# Altium footprint library POWER_COMPONENTS_FOOTPRINTS.PcbLib: 14 footprints
Each footprint in its own frame and in the unit in brackets; x right, y up, seen from the top. Pads: shape width x height; smd on the part's side, far side on the other; paste and mask are expansions set on the pad; w line width, h text height; cw(c..) or ccw(c..) is an arc to the next point about the centre after c.
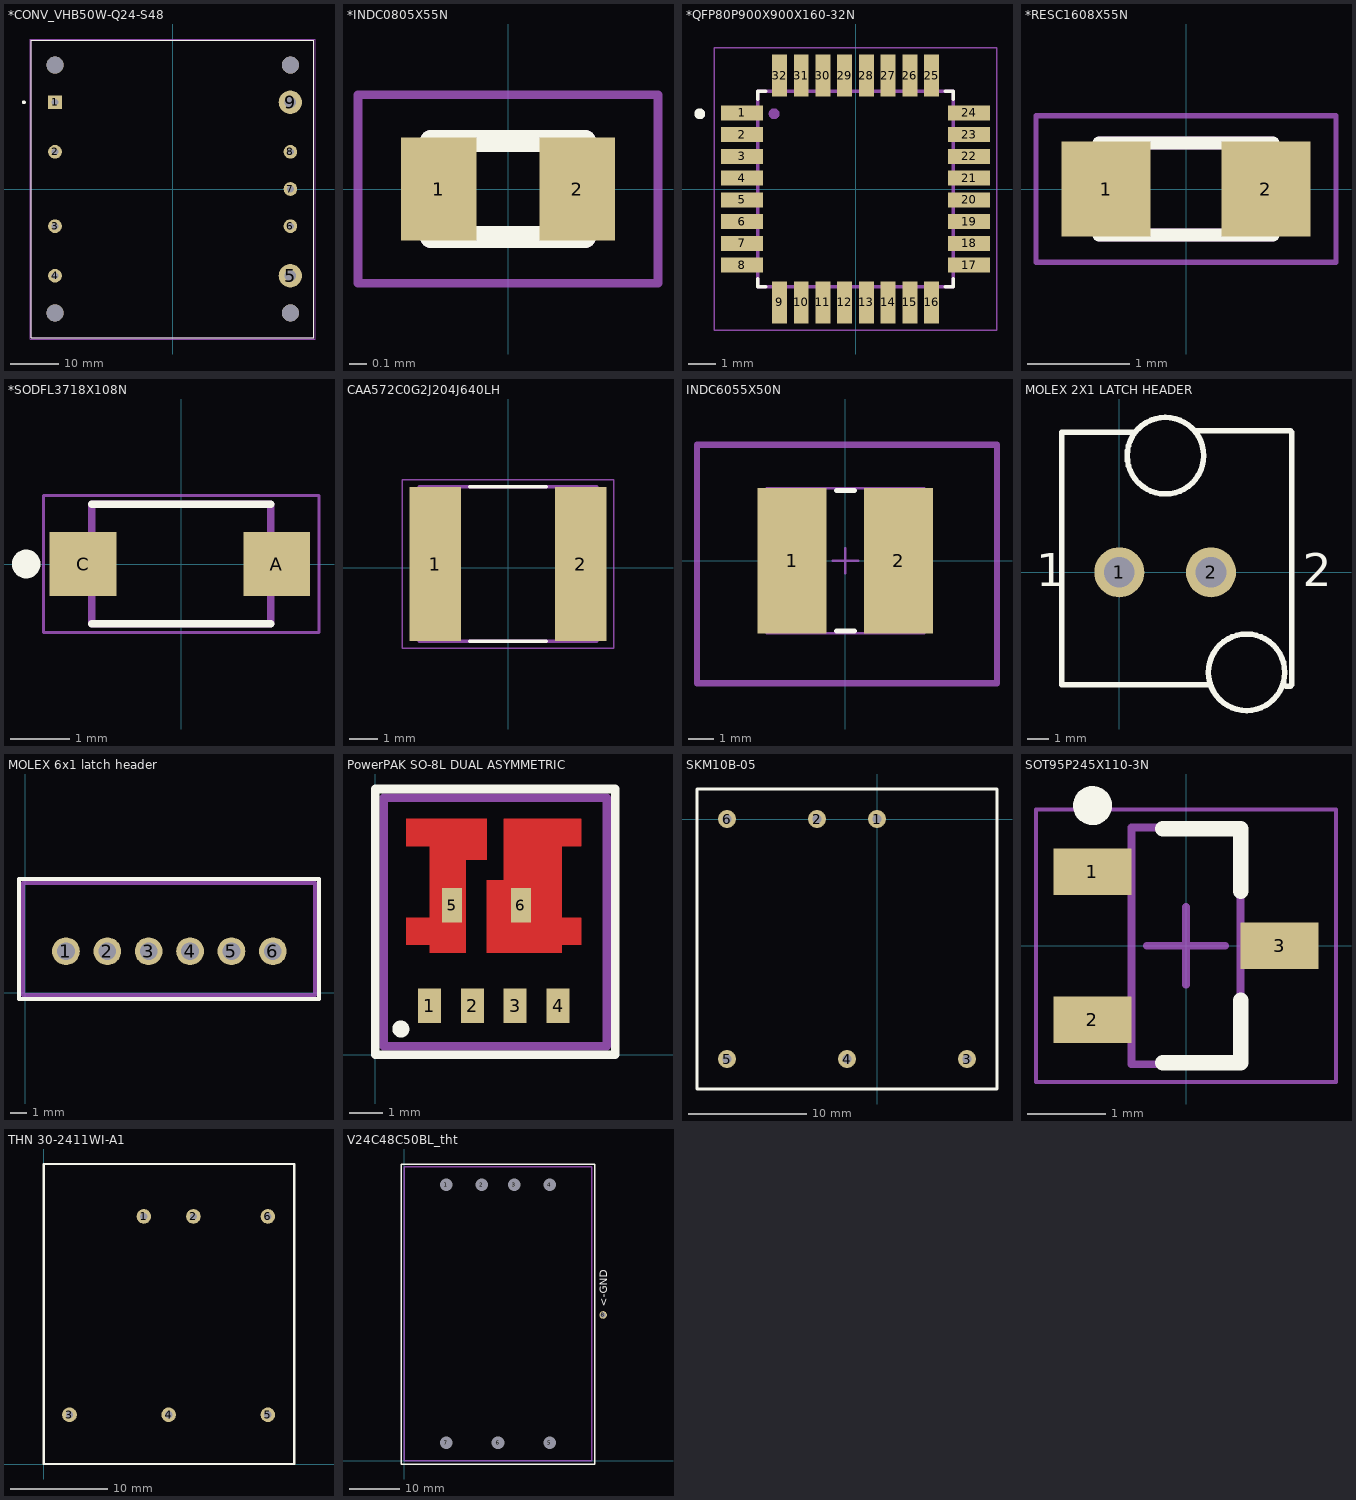
[diagram p0: the footprints below, top view; thin cyan lines are the x and y axes]

## *CONV_VHB50W-Q24-S48 [mm]
pads (13):
  rect 2.8x2.8 hole 1.4: 1(-24.125,17.78)
  round 2.8 hole 1.4: 2(-24.125,7.62) 3(-24.125,-7.62) 4(-24.125,-17.78) 6(24.125,-7.62) 7(24.125,0) 8(24.125,7.62)
  round 4.8 hole 2.4: 5(24.125,-17.78) 9(24.125,17.78)
  round 3.5 hole 3.5 unplated: None(-24.125,-25.4) None(-24.125,25.4) None(24.125,-25.4) None(24.125,25.4)
Top Overlay:
  circle w0.4: c-30.515,17.78 r0.2
  lines w0.127: -28.95,-30.5 28.95,-30.5 28.95,30.5 -28.95,30.5 -28.95,-30.5
Dimensions:
  circle w0.4: c-24.125,17.78 r0.2
  circle w0.4: c-24.125,17.78 r0.2
  lines w0.127: -28.95,-30.5 28.95,-30.5 ; -28.95,-30.5 -28.95,30.5 ; -28.95,-30.5 28.95,-30.5 ; -28.95,-30.5 -28.95,30.5 ; -28.95,30.5 28.95,30.5 ; -28.95,30.5 28.95,30.5 ; 28.95,-30.5 28.95,30.5 ; 28.95,-30.5 28.95,30.5
Mechanical 15:
  lines w0.05: -29.2,-30.75 -29.2,30.75 29.2,30.75 29.2,-30.75 -29.2,-30.75
3D body "CUI_VHB50W-Q24-S48.step": height 12.7, standoff -4.6, extent -28.95,-30.5 28.95,30.5

## *INDC0805X55N [mm]
pads (2):
  rect 0.44x0.6 smd: 1(-0.405,0) 2(0.405,0)
Top Overlay:
  lines w0.127: -0.45,-0.28 0.45,-0.28 ; -0.45,0.28 0.45,0.28
Bottom 3D Body:
  lines w0.127: -0.45,-0.28 0.45,-0.28 ; -0.45,-0.28 -0.45,0.28 ; -0.45,-0.28 -0.45,0.28 ; -0.45,0.28 0.45,0.28 ; 0.45,-0.28 0.45,0.28 ; 0.45,-0.28 0.45,0.28
Mechanical 15:
  lines w0.05: -0.875,-0.55 -0.875,0.55 0.875,0.55 0.875,-0.55 -0.875,-0.55
3D body: height 1.1, standoff 0, extent -0.45,-0.28 0.45,0.28

## *QFP80P900X900X160-32N [mm]
pads (32):
  rect 1.56x0.55 smd: 1(-4.18,2.8) 2(-4.18,2) 3(-4.18,1.2) 4(-4.18,0.4) 5(-4.18,-0.4) 6(-4.18,-1.2) 7(-4.18,-2) 8(-4.18,-2.8) 17(4.18,-2.8) 18(4.18,-2) 19(4.18,-1.2) 20(4.18,-0.4) 21(4.18,0.4) 22(4.18,1.2) 23(4.18,2) 24(4.18,2.8)
  rect 0.55x1.56 smd: 9(-2.8,-4.18) 10(-2,-4.18) 11(-1.2,-4.18) 12(-0.4,-4.18) 13(0.4,-4.18) 14(1.2,-4.18) 15(2,-4.18) 16(2.8,-4.18) 25(2.8,4.18) 26(2,4.18) 27(1.2,4.18) 28(0.4,4.18) 29(-0.4,4.18) 30(-1.2,4.18) 31(-2,4.18) 32(-2.8,4.18)
Top Overlay:
  circle w0.2: c-5.74,2.77 r0.1
  lines w0.127: -3.6,-3.3 -3.6,-3.6 -3.3,-3.6 ; -3.6,3.3 -3.6,3.6 -3.3,3.6 ; 3.3,-3.6 3.6,-3.6 3.6,-3.3 ; 3.3,3.6 3.6,3.6 3.6,3.3
Bottom 3D Body:
  circle w0.2: c-3,2.77 r0.1
  circle w0.2: c-3,2.77 r0.1
  lines w0.127: -3.6,-3.6 3.6,-3.6 ; -3.6,-3.6 -3.6,3.6 ; -3.6,-3.6 3.6,-3.6 ; -3.6,-3.6 -3.6,3.6 ; -3.6,3.6 3.6,3.6 ; -3.6,3.6 3.6,3.6 ; 3.6,-3.6 3.6,3.6 ; 3.6,-3.6 3.6,3.6
Mechanical 16:
  lines w0.05: -5.21,-5.21 5.21,-5.21 5.21,5.21 -5.21,5.21 -5.21,-5.21
3D body: height 1.1, standoff 0, extent -3.6,-3.6 3.6,3.6

## *RESC1608X55N [mm]
pads (2):
  rect 0.87x0.93 smd: 1(-0.78,0) 2(0.78,0)
Top Overlay:
  lines w0.127: -0.85,-0.45 0.85,-0.45 ; -0.85,0.45 0.85,0.45
Bottom 3D Body:
  lines w0.127: -0.85,-0.45 -0.85,0.45 ; -0.85,-0.45 0.85,-0.45 ; -0.85,-0.45 -0.85,0.45 ; -0.85,0.45 0.85,0.45 ; 0.85,-0.45 0.85,0.45 ; 0.85,-0.45 0.85,0.45
Mechanical 15:
  lines w0.05: -1.465,-0.715 -1.465,0.715 1.465,0.715 1.465,-0.715 -1.465,-0.715
3D body: height 1, standoff 0, extent -0.85,-0.45 0.85,0.45

## *SODFL3718X108N [mm]
pads (2):
  rect 1.12x1.08 smd: A(1.6,0) C(-1.645,0)
Top Overlay:
  circle w0.24: c-2.6,0 r0.12
  lines w0.127: -1.5,-1 1.5,-1 ; -1.5,1 1.5,1
Bottom 3D Body:
  lines w0.127: -1.5,-1 -1.5,1 ; -1.5,-1 1.5,-1 ; -1.5,-1 -1.5,1 ; -1.5,-1 1.5,-1 ; -1.5,1 1.5,1 ; -1.5,1 1.5,1 ; 1.5,-1 1.5,1 ; 1.5,-1 1.5,1
Mechanical 15:
  lines w0.05: -2.31,-1.15 -2.31,1.15 2.31,1.15 2.31,-1.15 -2.31,-1.15
3D body: height 1.1, standoff 0, extent -1.397,-1 1.603,1
3D body: height 1.15, standoff 0, extent -1.5,-1.016 -1.143,1.016

## CAA572C0G2J204J640LH [mm] "2220 Footprint for CAA572C0G2J204J640LH"
pads (2):
  rect 1.81x5.41 smd: 1(-2.55,0.127) 2(2.55,0.127)
Top Overlay:
  lines w0.127: -1.33,-2.573 1.33,-2.573 ; -1.33,2.827 1.33,2.827
Bottom 3D Body:
  lines w0.127: -3.1,-2.573 -3.1,2.827 ; -3.1,-2.573 3.1,-2.573 ; -3.1,-2.573 -3.1,2.827 ; -3.1,-2.573 3.1,-2.573 ; -3.1,2.827 3.1,2.827 ; -3.1,2.827 3.1,2.827 ; 3.1,-2.573 3.1,2.827 ; 3.1,-2.573 3.1,2.827
Mechanical 15:
  lines w0.05: -3.703,-2.827 -3.703,3.081 3.703,3.081 3.703,-2.827 -3.703,-2.827

## INDC6055X50N [mm] "Chip Inductor, 2-Leads, Body 6.00x5.50mm, IPC Medium Density"
height 5.05
pads (2):
  rect 2.72x5.72 smd: 1(-2.095,0) 2(2.095,0)
Top Overlay:
  lines w0.2: -0.35,-2.76 0.35,-2.76 ; -0.35,2.76 0.35,2.76
Dimensions:
  lines w0.1: -3.1,-2.85 3.1,-2.85 3.1,2.85 -3.1,2.85 -3.1,-2.85
Mechanical 15:
  lines w0.1: -0.5,0 0.5,0 ; 0,-0.5 0,0.5
  lines w0.254: -5.842,-4.826 5.969,-4.826 5.969,4.572 3.048,4.572 -5.842,4.572 -5.842,-2.921 -5.842,-4.826
3D body "INDC6055X50N.step": height 5.05, standoff 0, extent -3.1,-2.85 3.1,2.85

## MOLEX 2X1 LATCH HEADER [mil] "2x1 female molex connector for laser"
pads (2):
  round 90 hole 55 paste+0: 1(0,0) 2(165,0)
Top Overlay:
  circle w10: c83,210 r68.88
  circle w10: c229,-180 r68.82
  lines w10: 27.53,252.53 -103.97,252.53 -103.97,-202.53 162.53,-202.53 165,-205 ; 140,255 307.73,255 310.2,252.53 310.2,-202.53 307.73,-205 300,-205
  text "1" at -150,-25 h60
  text "2" at 330,-25 h60
3D body "1726470102.stp": height 503.94, standoff -137.8, extent -103.97,-202.53 310.2,252.53

## MOLEX 6x1 latch header [mm] "Single row, 6 position pin header with positive latch"
pads (6):
  round 1.7 hole 1.09 paste+0: 1(2.5,2.55) 2(5.04,2.55) 3(7.58,2.55) 4(10.12,2.55) 5(12.66,2.55) 6(15.2,2.55)
Top Overlay:
  lines w0.254: -0.381,-0.381 -0.381,6.985 18.034,6.985 18.034,-0.381 -0.381,-0.381
Mechanical 15:
  lines w0.254: -0.127,-0.127 -0.127,6.731 17.78,6.731 17.78,-0.127 -0.127,-0.127
3D body "1719710006.stp": height 11.8, standoff -3.31, extent 0,0 17.7,6.6

## PowerPAK SO-8L DUAL ASYMMETRIC [mm]
height 1.07
pads (6):
  rect 0.68x1.02 smd: 1(1.61,1.455) 2(2.88,1.455) 3(4.15,1.455) 4(5.42,1.455)
  rect 0.59x1.02 smd paste-1 mask-1: 5(2.28,4.435) 6(4.32,4.435)
Top Layer:
  region: 7.874,-1.016
  region: 0.915,6.985 3.3,6.985 3.3,5.775 2.685,5.775 2.685,3.025 1.625,3.025 1.625,3.255 0.915,3.255 0.915,4.065 1.625,4.065 1.625,6.175 0.915,6.175
  region: 3.81,6.985 6.115,6.985 6.115,6.175 5.53,6.175 5.53,4.065 6.115,4.065 6.115,3.255 5.53,3.255 5.53,3.025 3.3,3.025 3.3,5.165 3.81,5.165
  region: 4.58,5.715
  region: 4.58,6.35
Top Overlay:
  lines w0.254: 0.876,0.819 ccw(c0.762,0.762) 0.889,0.762 ; 0,0 0,7.874 7.112,7.874 7.112,0 0,0
Mechanical 15:
  lines w0.254: 0.254,0.254 6.858,0.254 6.858,7.62 0.254,7.62 0.254,0.254
3D body: height 1.02, standoff 0, extent 1.27,1.397 5.715,6.604

## SKM10B-05 [mil] "SKM10B-05"
height 401.57
pads (6):
  round 60 hole 30: 1(0,0) 2(-200,0) 3(300,-800) 4(-100,-800) 5(-500,-800) 6(-500,0)
Top Overlay:
  lines w10: -600,60 -600,100 400,100 400,-900 -600,-900 -600,70
3D body: height 1200.79, standoff -1200.79, extent -595,95 -595,95
3D body: height 401.57, standoff 0, extent -600,-900 400,100

## SOT95P245X110-3N [mm] "SOT23, 3-Leads, Body 2.92x2.45mm, Pitch 0.95mm, IPC Medium Density"
height 1.1
pads (3):
  rect 1x0.6 smd: 1(-1.2,0.95) 2(-1.2,-0.95) 3(1.2,0)
Top Overlay:
  circle w0.25: c-1.2,1.8 r0.125
  lines w0.2: -0.3,-1.5 0.7,-1.5 0.7,-0.7 ; -0.3,1.5 0.7,1.5 0.7,0.7
Dimensions:
  lines w0.1: -0.7,-1.52 0.7,-1.52 0.7,1.52 -0.7,1.52 -0.7,-1.52
Mechanical 15:
  lines w0.05: -1.925,-1.75 1.925,-1.75 1.925,1.75 -1.925,1.75 -1.925,-1.75
  lines w0.1: -0.5,0 0.5,0 ; 0,-0.5 0,0.5
3D body "SOT95P245X110-3N.step": height 1.1, standoff 0, extent -1.3,-1.52 1.3,1.52

## THN 30-2411WI-A1 [mm]
pads (6):
  round 1.5 hole 0.75 paste+0: 1(10.253,25.36) 2(15.333,25.36) 3(2.633,5.04) 4(12.793,5.04) 5(22.953,5.04) 6(22.953,25.36)
Top Overlay:
  lines w0.254: 0,0.127 0,0.254 0,30.734 25.654,30.734 25.654,0 0.127,0 ; 0,0.127 0.127,0 ; 0,0.127 0,0 0.127,0
3D body "thn30wi_hs_3d_drawing.step": height 17.3, standoff -4.3, extent 0.127,0.062 25.527,30.418

## V24C48C50BL_tht [mil] "THT V24C48C50BL footprint"
pads (8):
  oval 59.06x60 hole 97: 1(325,2140) 2(600,2140) 3(850,2140) 4(1125,2140) 5(1125,140) 7(325,140)
  oval 59.06x60 hole 97 paste+5: 6(725,140)
  round 59.06 hole 39.37 paste+0: 8(1540,1130)
Top Overlay:
  lines w10: -25,-25 -25,2300 1475,2300 1475,-20 1475,-25 1465,-25 -25,-25
  text "<-GND" at 1570,1195 h60
Mechanical 15:
  lines w10: 0,0 0,2280 1450,2280 1450,0 0,0
Multi-Layer:
  circle w30: c725,140 r60
  circle w30: c1125,140 r60
  circle w30: c325,140 r60
  circle w30: c850,2140 r60
  circle w30: c325,2140 r60
  circle w30: c1125,2140 r60
  circle w30: c600,2140 r60
3D body "37207r1-VxxCxxxxxxBL3P.STP": height 525, standoff -106.68, extent 0,5 1450,2285